# Altium footprint library CRYSTAL.PcbLib: 9 footprints
Each footprint in its own frame and in the unit in brackets; x right, y up, seen from the top. Pads: shape width x height; smd on the part's side, far side on the other; paste and mask are expansions set on the pad; w line width, h text height; cw(c..) or ccw(c..) is an arc to the next point about the centre after c.
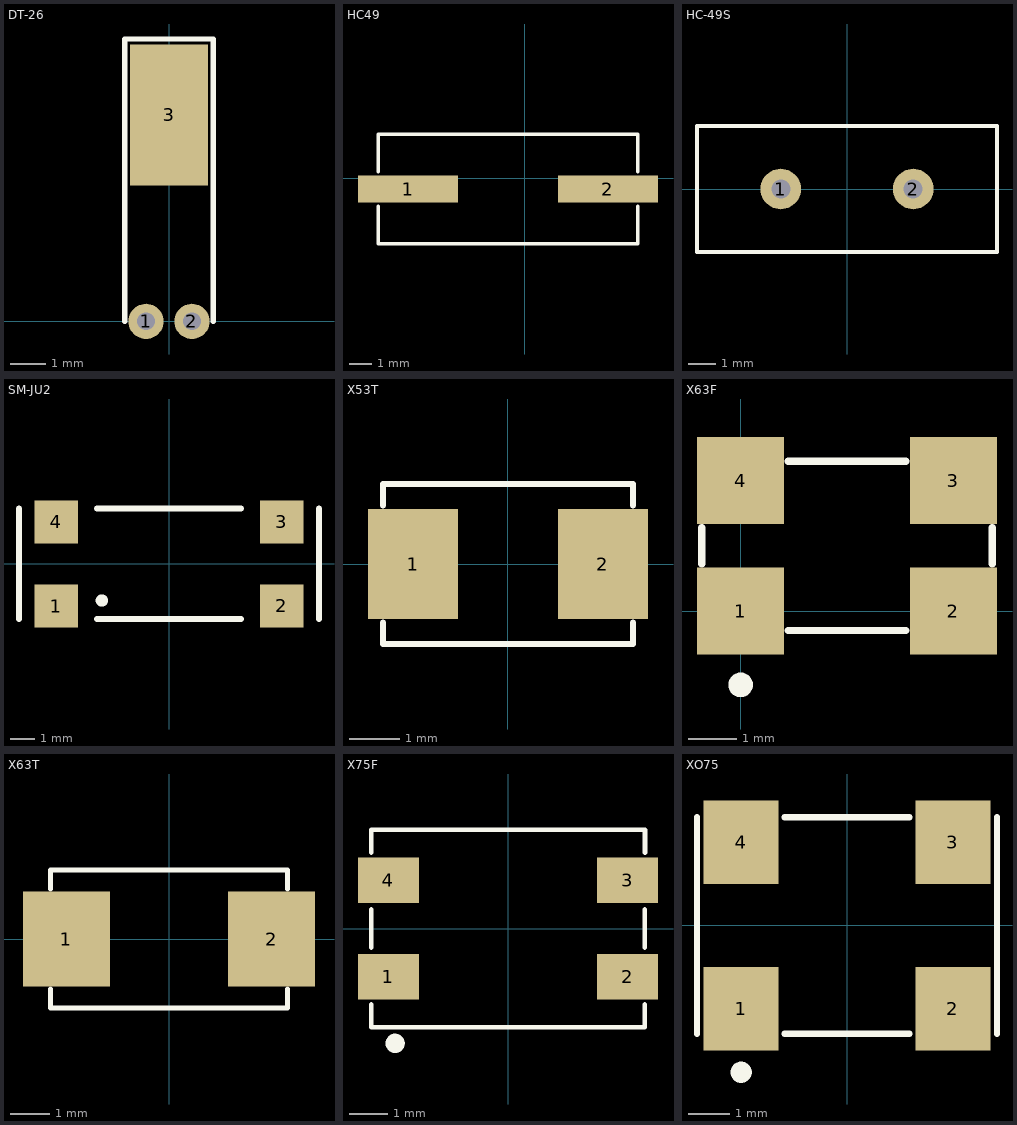
[diagram p0: the footprints below, top view; thin cyan lines are the x and y axes]

## DT-26 [mm]
pads (3):
  round 1 hole 0.5: 1(-0.65,0) 2(0.65,0)
  rect 2.2x4 smd: 3(0,5.85)
Top Overlay:
  lines w0.152: -1.25,0 -1.25,8 1.25,8 1.25,0

## HC49 [mm]
pads (2):
  rect 4.4x1.2 smd: 1(-5.132,-0.474) 2(3.648,-0.474)
Top Overlay:
  lines w0.152: -6.442,-1.226 -6.442,-2.874 4.958,-2.874 4.958,-1.226 ; -6.442,0.277 -6.442,1.926 4.958,1.926 4.958,0.277

## HC-49S [mm]
height 3.5
pads (2):
  round 1.5 hole 0.7: 1(-2.44,0) 2(2.44,0)
Top Overlay:
  lines w0.152: -5.525,-2.325 -5.525,2.325 5.525,2.325 5.525,-2.325 -5.525,-2.325

## SM-JU2 [mm] "For SM-JU2 Crystal 9.4mm pitch12.5mm*6.4mm*3.7mm"
height 3.7
pads (4):
  rect 1.8x1.8 smd: 1(-4.7,-1.76) 2(4.7,-1.75) 3(4.7,1.75) 4(-4.7,1.75)
Top Overlay:
  circle w0.254: c-2.797,-1.524 r0.13
  lines w0.254: -6.25,-2.3 -6.25,2.3 ; -3,-2.3 3,-2.3 ; -3,2.3 3,2.3 ; 6.25,-2.3 6.25,2.3

## X53T [mm] "FOR JFVNY"
height 0.9
pads (2):
  rect 1.8x2.2 smd: 1(-1.9,0) 2(1.9,0)
Top Overlay:
  lines w0.127: -2.5,-1.17 -2.5,-1.6 2.5,-1.6 2.5,-1.17 ; -2.5,1.17 -2.5,1.6 2.5,1.6 2.5,1.17

## X63F [mm]
pads (4):
  rect 1.8x1.8 smd: 1(0,0) 2(4.4,0) 3(4.4,2.7) 4(0,2.7)
Top Overlay:
  circle w0.254: c0,-1.524 r0.127
  lines w0.152: -0.8,0.98 -0.8,1.72 ; 0.98,-0.4 3.42,-0.4 ; 0.98,3.1 3.42,3.1 ; 5.2,0.98 5.2,1.72

## X63T [mm] "FOR JFNVY"
height 1.1
pads (2):
  rect 2.2x2.4 smd: 1(-2.6,0) 2(2.6,0)
Top Overlay:
  lines w0.127: -3,-1.267 -3,-1.75 3,-1.75 3,-1.267 ; -3,1.267 -3,1.75 3,1.75 3,1.267

## X75F [mm]
pads (4):
  rect 1.6x1.2 smd: 1(-3.15,-1.27) 2(3.15,-1.27) 3(3.15,1.27) 4(-3.15,1.27)
Top Overlay:
  circle w0.254: c-2.972,-3.023 r0.127
  lines w0.127: -3.6,-2 -3.6,-2.6 3.6,-2.6 3.6,-2 ; -3.6,-0.5 -3.6,0.5 ; -3.6,2 -3.6,2.6 3.6,2.6 ; 3.6,-0.5 3.6,0.5 ; 3.607,2 3.607,2.593

## XO75 [mm] "CRYSTAL"
pads (4):
  rect 1.8x2 smd: 1(-2.54,-2) 2(2.54,-2) 3(2.54,2) 4(-2.54,2)
Top Overlay:
  circle w0.254: c-2.54,-3.524 r0.127
  lines w0.152: -3.6,-2.6 -3.6,2.6 ; -1.5,-2.6 1.5,-2.6 ; -1.5,2.6 1.5,2.6 ; 3.6,-2.6 3.6,2.6